# Altium footprint library CN_HDR1X3.PcbLib: 1 footprints
Each footprint in its own frame and in the unit in brackets; x right, y up, seen from the top. Pads: shape width x height; smd on the part's side, far side on the other; paste and mask are expansions set on the pad; w line width, h text height; cw(c..) or ccw(c..) is an arc to the next point about the centre after c.
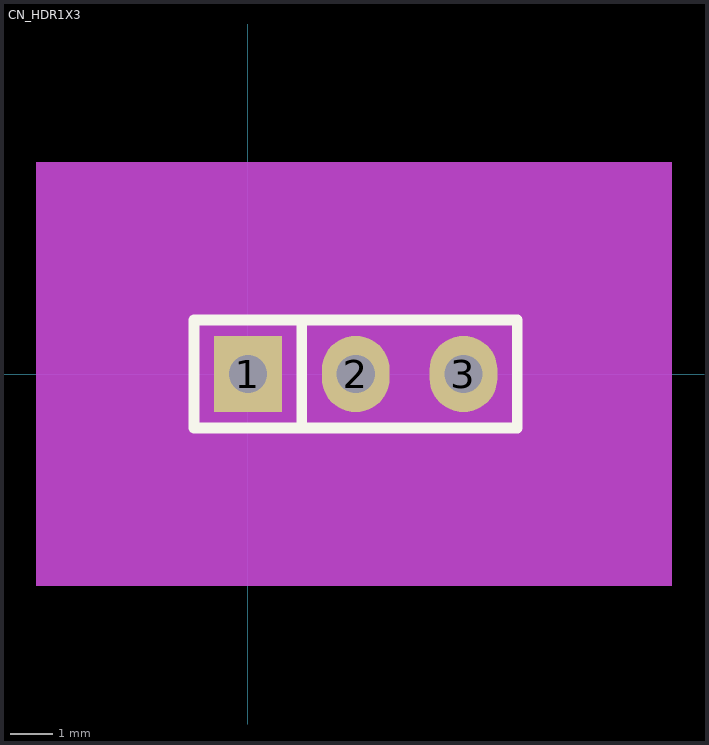
[diagram p0: the footprint, top view; thin cyan lines are the x and y axes]

## CN_HDR1X3 [mm] "Connector; Header; 3 Position"
pads (3):
  rect 1.6x1.8 hole 0.9: 1(0,0)
  oval 1.6x1.8 hole 0.9: 2(2.54,0) 3(5.08,0)
Top Overlay:
  lines w0.254: 1.27,1.27 1.27,-1.27 ; 1.27,-1.27 -1.27,-1.27 -1.27,1.27 6.35,1.27 6.35,-1.27 1.27,-1.27
Mechanical 3 keep-out:
  rectangle: -5,-5 10,5
3D body: height 9.54, standoff -3.06, extent -1.27,-1.282 6.35,1.258